# Altium footprint library OST_USB-A1HSW6.PcbLib: 1 footprints
Each footprint in its own frame and in the unit in brackets; x right, y up, seen from the top. Pads: shape width x height; smd on the part's side, far side on the other; paste and mask are expansions set on the pad; w line width, h text height; cw(c..) or ccw(c..) is an arc to the next point about the centre after c.
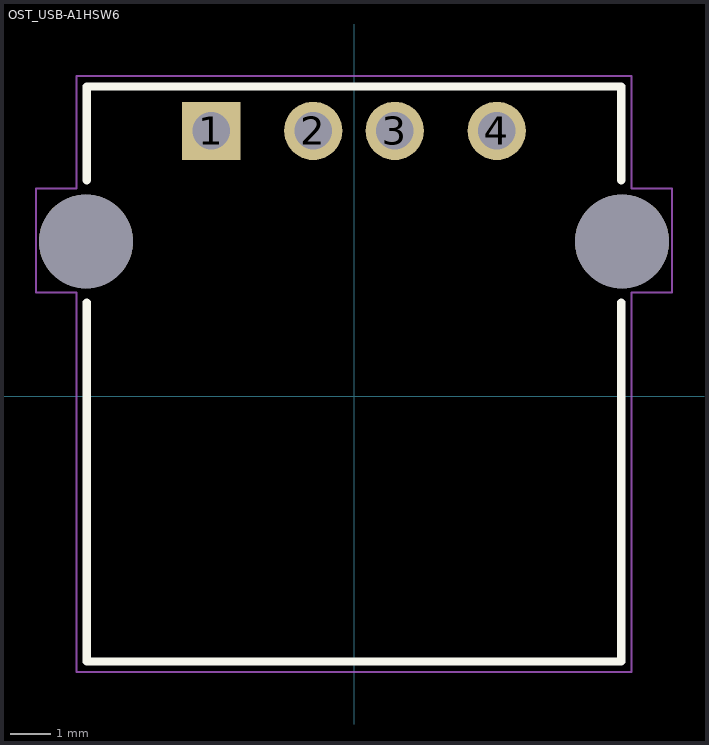
[diagram p0: the footprint, top view; thin cyan lines are the x and y axes]

## OST_USB-A1HSW6 [mm]
pads (6):
  rect 1.428x1.428 / inner round 1.428 / far side rect 1.428x1.428 hole 0.92: 1(-3.5,6.51)
  round 1.428 hole 0.92: 2(-1,6.51) 3(1,6.51) 4(3.5,6.51)
  round 2.3 hole 2.3 unplated: ""(-6.57,3.8) ""(6.57,3.8)
Top Overlay:
  lines w0.2: -6.55,2.3 -6.55,-6.5 6.55,-6.5 6.55,2.3 ; -6.55,5.3 -6.55,7.6 6.55,7.6 6.55,5.3
Mechanical 15:
  lines w0.05: -7.8,2.55 -6.8,2.55 -6.8,-6.75 6.8,-6.75 6.8,2.55 7.8,2.55 7.8,5.1 6.8,5.1 6.8,7.85 -6.8,7.85 -6.8,5.1 -7.8,5.1 -7.8,2.55
3D body "step_temp.STEP": height 3.56, standoff -7.24, extent -7.9,0 7.9,14.1